# EAGLE library part ATMEGAXX8P-MU(R)-32VQFN (library yb-library)
Microchip Technology ATMEGA328P-MU(R), 8bit AVR Microcontroller, 20MHz, 32 kB Flash, 32-Pin VQFN Source: Datasheet <http://ww1.microchip.com/downloads/en/DeviceDoc/40001907A.pdf>
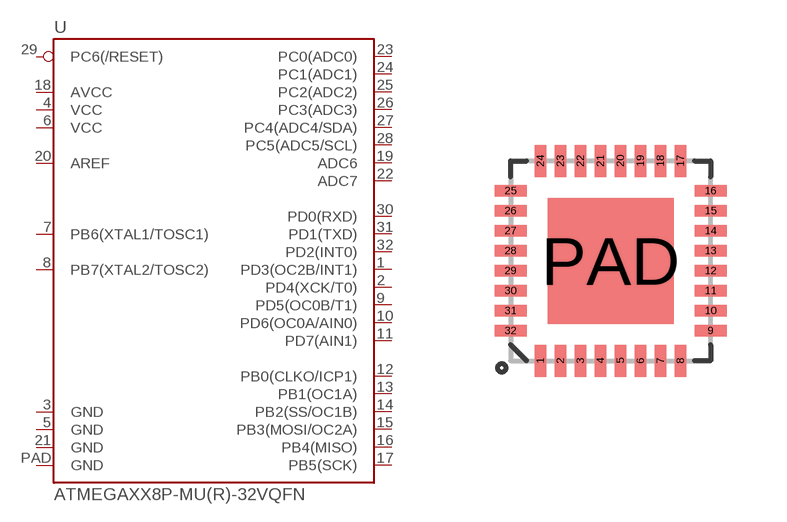
[diagram p29: symbol with the pads of VQFN-32; footprint VQFN-32]

Designator prefix U

## ATMEGAXX8P-MU(R)-32VQFN (ARROW_PART_NUMBER: ATMEGA328PB-MU; ARROW_PRICE-STOCK: https://www.arrow.com/en/products/atmega328pb-mu/microchip-technology?region=nac; DESCRIPTION: Microchip Technology ATMEGA328PB-MU, 8bit AVR Microcontroller, 20MHz, 32 kB Flash, 32-Pin VQFN; HEIGHT: 0.9mm; MANUFACTURER_NAME: Microchip; MANUFACTURER_PART_NUMBER: ATMEGA328PB-MU; MOUSER_PART_NUMBER: 556-ATMEGA328PB-MU; MOUSER_PRICE-STOCK: https://www.mouser.co.uk/ProductDetail/Microchip-Technology/ATMEGA328PB-MU?qs=jy4bLUHv09ij6n2RwzX9vg%3D%3D)  [VQFN-32]
1  PD3(OC2B/INT1)
2  PD4(XCK/T0)
3  GND
4  VCC
5  GND
6  VCC
7  PB6(XTAL1/TOSC1)
8  PB7(XTAL2/TOSC2)
9  PD5(OC0B/T1)
10  PD6(OC0A/AIN0)
11  PD7(AIN1)
12  PB0(CLKO/ICP1)
13  PB1(OC1A)
14  PB2(SS/OC1B)
15  PB3(MOSI/OC2A)
16  PB4(MISO)
17  PB5(SCK)
18  AVCC
19  ADC6
20  AREF
21  GND
22  ADC7
23  PC0(ADC0)
24  PC1(ADC1)
25  PC2(ADC2)
26  PC3(ADC3)
27  PC4(ADC4/SDA)
28  PC5(ADC5/SCL)
29  PC6(/RESET)
30  PD0(RXD)
31  PD1(TXD)
32  PD2(INT0)
PAD  GND

## Footprint VQFN-32 (pad centres in mm)
QFN 32-Pin package w/ Thermal Pad 32-Lead Thin Plastic Quad Flat, No Lead Package (S4B) - 5x5 mm Body [VQFN] Punch Singulated; 3.10x3.10 mm Exposed Pad
smd 0.285 x 0.8: 1 -1.75,-2.5; 2 -1.25,-2.5; 3 -0.75,-2.5; 4 -0.25,-2.5; 5 0.25,-2.5; 6 0.75,-2.5; 7 1.25,-2.5; 8 1.75,-2.5; 17 1.75,2.5; 18 1.25,2.5; 19 0.75,2.5; 20 0.25,2.5; 21 -0.25,2.5; 22 -0.75,2.5; 23 -1.25,2.5; 24 -1.75,2.5
smd 0.8 x 0.285: 9 2.5,-1.75; 10 2.5,-1.25; 11 2.5,-0.75; 12 2.5,-0.25; 13 2.5,0.25; 14 2.5,0.75; 15 2.5,1.25; 16 2.5,1.75; 25 -2.5,1.75; 26 -2.5,1.25; 27 -2.5,0.75; 28 -2.5,0.25; 29 -2.5,-0.25; 30 -2.5,-0.75; 31 -2.5,-1.25; 32 -2.5,-1.75
smd 3.15 x 3.15: PAD 0,0